# EAGLE library part PINHD-1X07_SHROUDED (library pinhead)
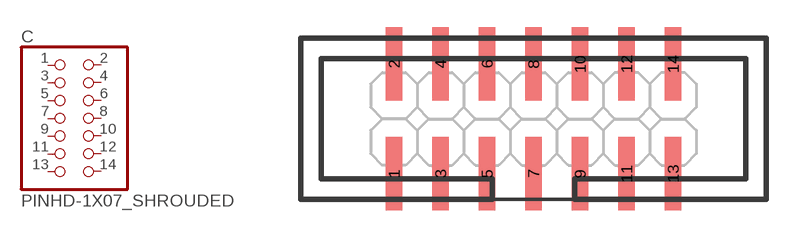
[diagram p0: symbol with the pads of 2X07_SMD_SHROUDED; footprint 2X07_SMD_SHROUDED]

Designator prefix C

## PINHD-1X07_SHROUDED (DISTRIBUTOR: Farnell; OC_FARNELL: 2356273; ORDER_CODE: 2356273)  [2X07_SMD_SHROUDED]
1  1  pas
2  2  pas
3  3  pas
4  4  pas
5  5  pas
6  6  pas
7  7  pas
8  8  pas
9  9  pas
10  10  pas
11  11  pas
12  12  pas
13  13  pas
14  14  pas

## Footprint 2X07_SMD_SHROUDED (pad centres in mm)
smd 0.9 x 4: 1 -7.62,-3; 2 -7.62,3; 3 -5.08,-3; 4 -5.08,3; 5 -2.54,-3; 6 -2.54,3; 7 0,-3; 8 0,3; 9 2.54,-3; 10 2.54,3; 11 5.08,-3; 12 5.08,3; 13 7.62,-3; 14 7.62,3